# Altium footprint library plobot_final23.PcbLib: 32 footprints (part 1 of 2)
Each footprint in its own frame and in the unit in brackets; x right, y up, seen from the top. Pads: shape width x height; smd on the part's side, far side on the other; paste and mask are expansions set on the pad; w line width, h text height; cw(c..) or ccw(c..) is an arc to the next point about the centre after c.
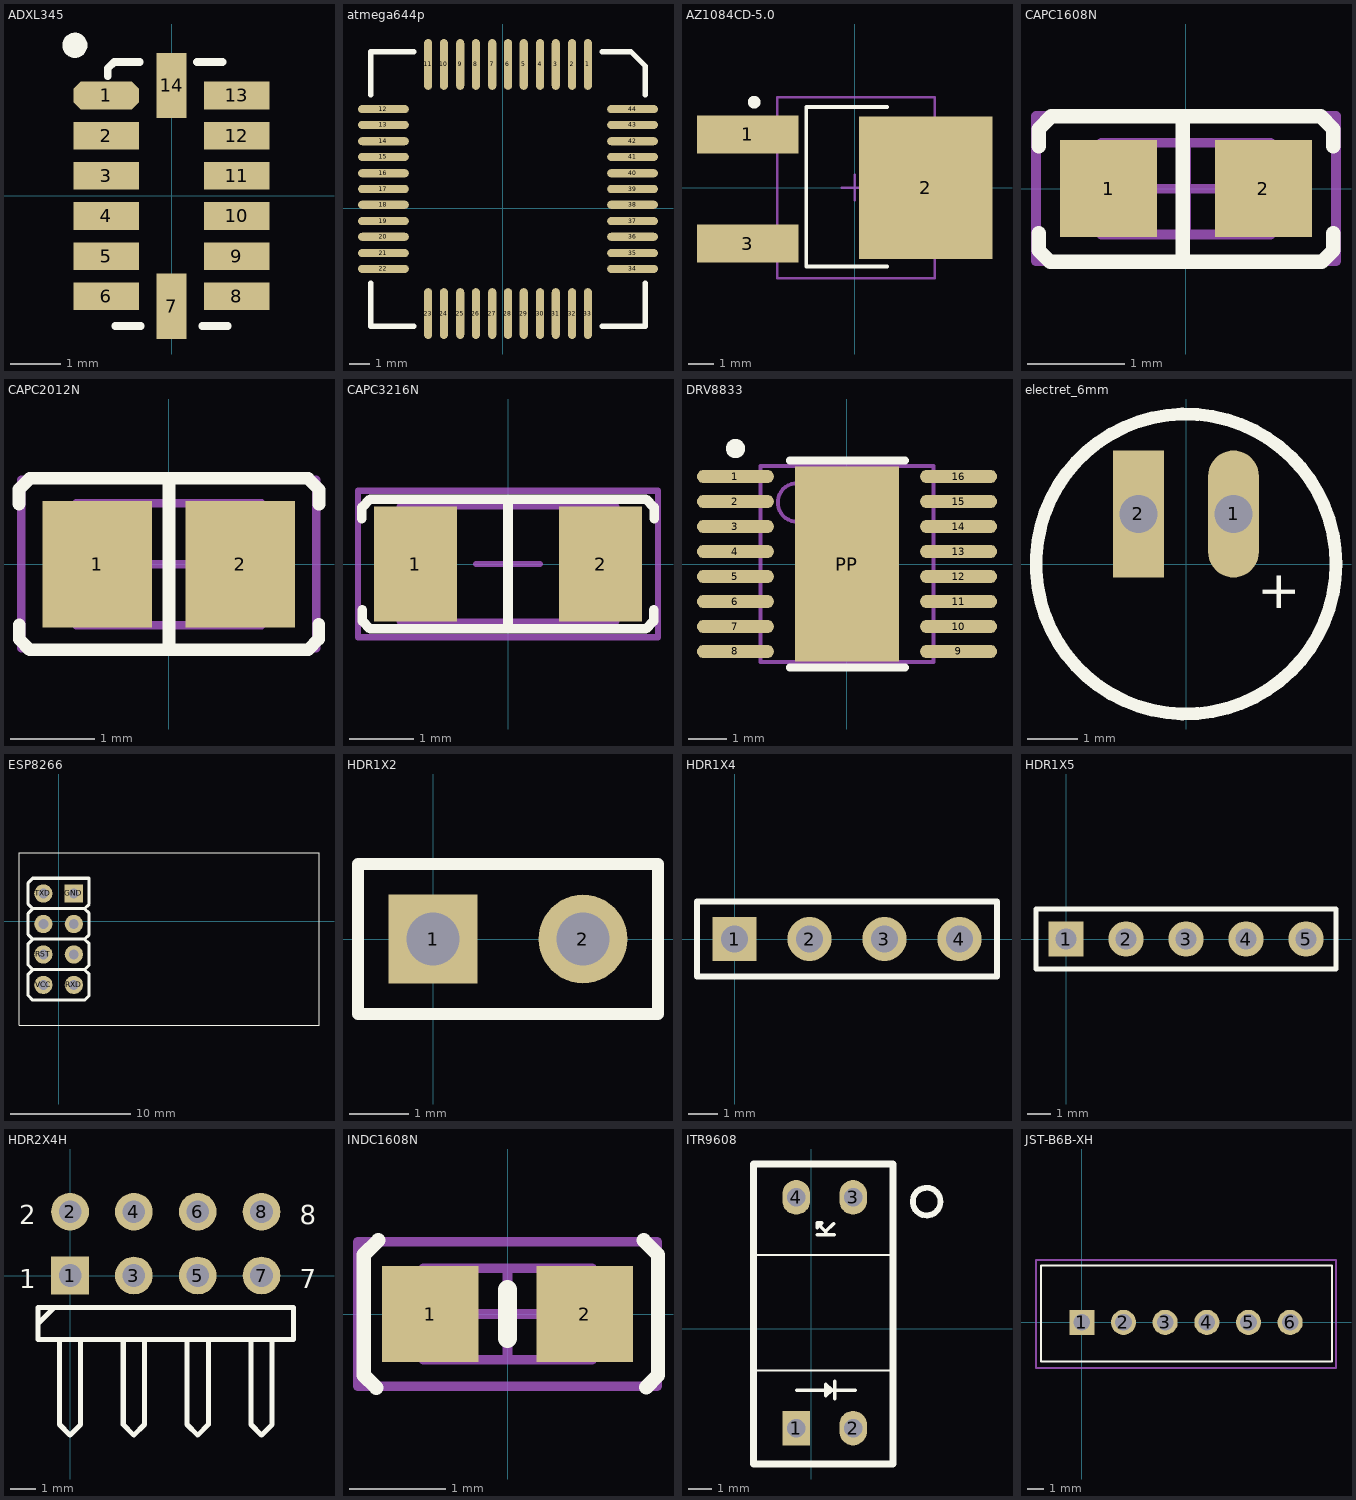
[diagram p0: the footprints below, top view; thin cyan lines are the x and y axes]

## ADXL345 [mm] "BGA, 14-Leads, Body 5.0x3.0mm,  Pitch 0.80mm"
height 1
pads (14):
  oct 1.3x0.55 smd: 1(-1.3,2)
  rect 1.3x0.55 smd: 2(-1.3,1.2) 3(-1.3,0.4) 4(-1.3,-0.4) 5(-1.3,-1.2) 6(-1.3,-2) 8(1.3,-2) 9(1.3,-1.2) 10(1.3,-0.4) 11(1.3,0.4) 12(1.3,1.2) 13(1.3,2)
  rect 0.6x1.3 smd: 7(0,-2.2) 14(0,2.2)
Top Overlay:
  circle w0.25: c-1.925,3 r0.125
  lines w0.152: -1.27,2.388 -1.27,2.54 -1.143,2.667 -0.635,2.667 ; -1.118,-2.591 -0.61,-2.591 ; 0.508,2.667 1.016,2.667 ; 0.61,-2.591 1.118,-2.591
3D body: height 1, standoff 0.21, extent -1.5,-2.5 1.5,2.5

## atmega644p [mil]
height 173.23
pads (44):
  oval 16x100 smd: 1(167.45,282.95) 2(136.45,282.95) 3(104.45,282.95) 4(73.45,282.95) 5(41.45,282.95) 6(10.45,282.95) 7(-20.55,282.95) 8(-52.55,282.95) 9(-83.55,282.95) 10(-115.55,282.95) 11(-146.55,282.95) 23(-146.55,-207.05) 24(-115.55,-207.05) 25(-83.55,-207.05) 26(-52.55,-207.05) 27(-20.55,-207.05) 28(10.45,-207.05) 29(41.45,-207.05) 30(73.45,-207.05) 31(104.45,-207.05) 32(136.45,-207.05) 33(167.45,-207.05)
  oval 100x16 smd: 12(-234.55,194.95) 13(-234.55,163.95) 14(-234.55,131.95) 15(-234.55,100.95) 16(-234.55,68.95) 17(-234.55,37.95) 18(-234.55,6.95) 19(-234.55,-25.05) 20(-234.55,-56.05) 21(-234.55,-88.05) 22(-234.55,-119.05) 34(255.45,-119.05) 35(255.45,-88.05) 36(255.45,-56.05) 37(255.45,-25.05) 38(255.45,6.95) 39(255.45,37.95) 40(255.45,68.95) 41(255.45,100.95) 42(255.45,131.95) 43(255.45,163.95) 44(255.45,194.95)
Top Overlay:
  lines w10: -259.55,-147.05 -259.55,-232.05 -174.55,-232.05 ; -259.55,222.95 -259.55,307.95 -174.55,307.95 ; 195.45,-232.05 280.45,-232.05 280.45,-147.05 ; 195.45,307.95 252.45,307.95 280.45,279.95 280.45,222.95
3D body: height 39.37, standoff 0, extent -182.94,-161.93 226.5,243.58

## AZ1084CD-5.0 [mm] "D-PAK, 3-Pads, Body 6.2x6.7mm (max), IPC Low Density"
height 2.38
pads (3):
  rect 4x1.5 smd: 1(-4.2,2.1) 3(-4.2,-2.2)
  rect 5.25x5.6 smd: 2(2.8,0)
Top Overlay:
  circle w0.25: c-3.95,3.365 r0.125
  lines w0.152: 1.27,-3.099 -1.905,-3.099 -1.905,3.175 1.27,3.175
Mechanical 13:
  lines w0.1: -3.05,-3.556 3.15,-3.556 3.15,3.556 -3.05,3.556 -3.05,-3.556
Mechanical 15:
  lines w0.1: -0.5,0 0.5,0 ; 0,-0.5 0,0.5
3D body: height 2.38, standoff 0.23, extent -3.608,-3.302 2.592,3.302

## CAPC1608N [mm]
pads (2):
  rect 1x1 smd: 1(-0.8,0) 2(0.8,0)
Top Overlay:
  lines w0.15: -1.524,-0.46 -1.524,-0.635 -1.401,-0.758 1.401,-0.758 1.524,-0.635 1.524,-0.46 ; -1.524,0.44 -1.524,0.615 -1.393,0.746 1.393,0.746 1.524,0.615 1.524,0.44 ; -0.035,-0.758 -0.035,0.746
Mechanical 13:
  lines w0.1: -0.875,-0.475 -0.875,0.475 0.875,0.475 0.875,-0.475 -0.875,-0.475
Mechanical 15:
  lines w0.1: -0.475,0 0.475,0 ; 0,-0.475 0,0.475 ; -1.55,-0.75 -1.55,0.75 1.55,0.75 1.55,-0.75 -1.55,-0.75
3D body: height 0.85, standoff 0, extent -0.875,-0.475 0.875,0.475

## CAPC2012N [mm]
pads (2):
  rect 1.3x1.5 smd: 1(-0.85,0) 2(0.85,0)
Top Overlay:
  lines w0.15: -1.778,0.714 -1.778,0.889 -1.647,1.02 1.651,1.02 ; -1.774,-0.718 -1.774,-0.893 -1.651,-1.016 1.655,-1.016 ; 0.002,-1.016 0.002,1.016 ; 1.651,1.016 1.782,0.885 1.782,0.71 ; 1.655,-1.012 1.778,-0.889 1.778,-0.714
Mechanical 13:
  lines w0.1: -1.1,-0.725 1.1,-0.725 1.1,0.725 -1.1,0.725 -1.1,-0.725
Mechanical 15:
  lines w0.1: -0.5,0 0.5,0 ; 0,-0.5 0,0.5 ; -1.75,-1 1.75,-1 1.75,1 -1.75,1 -1.75,-1
3D body: height 1.1, standoff 0, extent -1.1,-0.725 1.1,0.725

## CAPC3216N [mm] "Chip Capacitor, Body 3.2x1.6mm, IPC Medium Density"
height 1.35
pads (2):
  rect 1.3x1.8 smd: 1(-1.45,0) 2(1.45,0)
Top Overlay:
  lines w0.15: -2.29,0.71 -2.29,0.885 -2.159,1.016 2.159,1.016 2.29,0.885 2.29,0.71 ; -2.282,-0.718 -2.282,-0.893 -2.159,-1.016 2.159,-1.016 2.282,-0.893 2.282,-0.718 ; 0,-1.016 0,1.016
Mechanical 13:
  lines w0.1: -1.7,-0.9 1.7,-0.9 1.7,0.9 -1.7,0.9 -1.7,-0.9
Mechanical 15:
  lines w0.1: -0.5,0 0.5,0 ; 0,-0.5 0,0.5 ; -2.35,-1.15 2.35,-1.15 2.35,1.15 -2.35,1.15 -2.35,-1.15
3D body: height 1.35, standoff 0, extent -1.7,-0.9 1.7,0.9

## DRV8833 [mm]
height 4.4
pads (17):
  oval 2x0.35 smd: 1(-2.9,2.275) 2(-2.9,1.625) 3(-2.9,0.975) 4(-2.9,0.325) 5(-2.9,-0.325) 6(-2.9,-0.975) 7(-2.9,-1.625) 8(-2.9,-2.275) 9(2.9,-2.275) 10(2.9,-1.625) 11(2.9,-0.975) 12(2.9,-0.325) 13(2.9,0.325) 14(2.9,0.975) 15(2.9,1.625) 16(2.9,2.275)
  rect 2.7x5.08 smd: PP(0,0)
Top Overlay:
  circle w0.25: c-2.9,3 r0.125
  lines w0.2: -1.492,-2.692 1.508,-2.692 ; -1.492,2.692 1.508,2.692
Mechanical 13:
  circle w0.1: c-1.3,1.6 r0.5
  lines w0.1: -2.25,-2.55 -2.25,2.55 2.25,2.55 2.25,-2.55 -2.25,-2.55
Mechanical 15:
  lines w0.1: -0.5,0 0.5,0 ; 0,-0.5 0,0.5
3D body: height 1.2, standoff 0.25, extent -2.25,-2.55 2.25,2.55

## electret_6mm [mm]
height 4.4
pads (2):
  oval 1.016x2.54 hole 0.762: 1(0.95,1)
  rect 1.016x2.54 hole 0.762: 2(-0.95,1)
Top Overlay:
  circle w0.254: c0,0 r3
  text "+" at 2.184,-0.991 h0.76

## ESP8266 [mil]
pads (8):
  round 60 hole 32: CH_PD(-49.94,-9.12) GPIO0(50.06,-109.12) GPIO2(50.06,-9.12) RST(-49.94,-109.12) RXD(50.06,-209.12) TXD(-49.94,90.88) VCC(-49.94,-209.12)
  rect 60x60 hole 32: GND(50.06,90.88)
Top Overlay:
  lines w3.94: -129.92,-341 -129.92,224 854.33,224 854.33,-341 -129.92,-341
  lines w10: -84.94,-159.12 -99.94,-174.12 -99.94,-244.12 -84.94,-259.12 85.06,-259.12 100.06,-244.12 100.06,-174.12 85.06,-159.12 ; -84.94,-159.12 -99.94,-144.12 -99.94,-74.12 -84.94,-59.12 ; -84.94,-159.12 85.06,-159.12 ; -84.94,-59.12 -99.94,-44.12 -99.94,25.88 -84.94,40.88 ; -84.94,-59.12 85.06,-59.12 ; -84.94,40.88 -99.94,55.88 -99.94,125.88 -84.94,140.88 100.06,140.88 100.06,55.88 85.06,40.88 ; -84.94,40.88 85.06,40.88 ; 85.06,-159.12 100.06,-144.12 100.06,-74.12 85.06,-59.12 ; 85.06,-59.12 100.06,-44.12 100.06,25.88 85.06,40.88
3D body: height 163.78, standoff 157.48, extent -125,-340 845,230
3D body: height 157.48, standoff 0, extent -94.43,-248.09 90.61,129.86

## HDR1X2 [mm] "Connector; Header; 2 Position"
pads (2):
  rect 1.5x1.5 hole 0.9: 1(0,0)
  round 1.5 hole 0.9: 2(2.54,0)
Top Overlay:
  lines w0.2: -1.27,-1.27 -1.27,1.27 3.81,1.27 3.81,-1.27 -1.27,-1.27

## HDR1X4 [mm] "Connector; Header; 4 Position"
pads (4):
  rect 1.5x1.5 hole 0.9: 1(0,0)
  round 1.5 hole 0.9: 2(2.54,0) 3(5.08,0) 4(7.62,0)
Top Overlay:
  lines w0.2: -1.27,-1.27 8.89,-1.27 8.89,1.27 -1.27,1.27 -1.27,-1.27
3D body: height 4, standoff 0, extent -1.27,-1.27 8.89,1.27

## HDR1X5 [mm] "Connector; Header; 5 Position"
pads (5):
  rect 1.5x1.5 hole 0.9: 1(0,0)
  round 1.5 hole 0.9: 2(2.54,0) 3(5.08,0) 4(7.62,0) 5(10.16,0)
Top Overlay:
  lines w0.2: -1.27,-1.27 -1.27,1.27 11.43,1.27 11.43,-1.27 -1.27,-1.27

## HDR2X4H [mm] "Connector; Header; 4x2 Position; Right Angle"
height 4.4
pads (8):
  rect 1.5x1.5 hole 0.9: 1(0,0)
  round 1.5 hole 0.9: 2(0,2.54) 3(2.54,0) 4(2.54,2.54) 5(5.08,0) 6(5.08,2.54) 7(7.62,0) 8(7.62,2.54)
Top Overlay:
  lines w0.2: -1.27,-1.905 -0.635,-1.27 ; -0.423,-2.54 -0.423,-5.927 0,-6.35 0.423,-5.927 0.423,-2.54 ; 2.117,-2.54 2.117,-5.927 2.54,-6.35 2.963,-5.927 2.963,-2.54 ; 4.657,-2.54 4.657,-5.927 5.08,-6.35 5.503,-5.927 5.503,-2.54 ; 7.197,-2.54 7.197,-5.927 7.62,-6.35 8.043,-5.927 8.043,-2.54 ; -1.27,-2.54 8.89,-2.54 8.89,-1.27 -1.27,-1.27 -1.27,-2.54
  text "1" at -2.032,-0.508 h0.76
  text "7" at 9.144,-0.508 h0.76
  text "8" at 9.144,2.032 h0.76
  text "2" at -2.032,2.032 h0.76
3D body: height 2.5, standoff 1.5, extent -0.364,-5.945 0.636,0.055
3D body: height 2.5, standoff 1.5, extent 2.176,-5.945 3.176,0.055
3D body: height 2.5, standoff 1.5, extent 4.716,-5.945 5.716,0.055
3D body: height 2.5, standoff 1.5, extent 7.256,-5.945 8.256,0.055
3D body: height 4.5, standoff 3.5, extent 7.257,-5.945 8.255,3.055
3D body: height 4.5, standoff 3.5, extent 4.717,-5.945 5.715,3.055
3D body: height 4.5, standoff 3.5, extent 2.177,-5.945 3.175,3.055
3D body: height 4.5, standoff 3.5, extent -0.363,-5.945 0.635,3.055
3D body: height 5, standoff 0, extent -0.635,-0.635 8.255,3.81

## INDC1608N [mm]
pads (2):
  rect 1x1 smd: 1(-0.8,0) 2(0.8,0)
Top Overlay:
  lines w0.15: -1.362,-0.762 -1.489,-0.635 -1.489,-0.46 -1.489,0.44 -1.489,0.615 -1.342,0.762 ; 1.412,0.762 1.559,0.615 1.559,0.44 1.559,-0.46 1.559,-0.635 1.436,-0.758
  lines w0.2: 0,-0.254 0,0.254
Mechanical 13:
  lines w0.1: -0.875,-0.475 -0.875,0.475 0.875,0.475 0.875,-0.475 -0.875,-0.475
Mechanical 15:
  lines w0.1: -0.475,0 0.475,0 ; 0,-0.475 0,0.475 ; -1.55,-0.75 -1.55,0.75 1.55,0.75 1.55,-0.75 -1.55,-0.75
3D body: height 0.71, standoff 0, extent -0.875,-0.475 0.875,0.475

## ITR9608 [mm]
height 4.4
pads (4):
  rect 1.2x1.5 hole 0.8: 1(-0.651,-4.316)
  oval 1.2x1.5 hole 0.8: 2(1.816,-4.316) 3(1.816,5.684) 4(-0.651,5.684)
Top Overlay:
  circle w0.254: c5,5.5 r0.6
  lines w0.1: -2.502,-1.817 3.54,-1.817 ; -2.502,3.183 3.54,3.183
  lines w0.152: -0.635,-2.667 1.905,-2.667 ; 0.254,4.064 0.991,4.064 ; 0.254,4.369 0.254,4.572 ; 0.457,4.572 0.254,4.572 ; 0.635,4.064 0.635,4.191 ; 0.965,4.547 0.635,4.216 0.635,4.191 ; 1.016,-3.048 1.016,-2.286 ; 0.254,4.572 0.635,4.191 ; 0.635,-2.921 0.889,-2.667 0.635,-2.413 0.635,-2.921
  lines w0.3: -2.502,7.129 -2.502,-5.871 3.498,-5.871 ; -2.46,7.129 3.54,7.129 3.54,-5.871
3D body: height 2, standoff 0, extent -2.417,-1.817 3.583,3.183
3D body: height 10, standoff 0, extent -2.417,-5.817 3.583,-1.817
3D body: height 10, standoff 0, extent -2.417,3.183 3.583,7.183

## JST-B6B-XH [mm]
height 7
pads (6):
  rect 1.508x1.508 hole 1 mask-25.4: 1(0,0)
  round 1.508 hole 1 mask-25.4: 2(2.5,0) 3(5,0) 4(7.5,0) 5(10,0) 6(12.5,0)
Top Overlay:
  lines w0.127: -2.45,-2.35 -2.45,3.4 15,3.4 15,-2.35 -2.45,-2.35
Top Solder:
  region: 5,0.861 4.777,0.832 4.569,0.746 4.391,0.609 4.254,0.431 4.168,0.223 4.139,0 4.168,-0.223 4.254,-0.431 4.391,-0.609 4.569,-0.746 4.777,-0.832 5,-0.861 5.223,-0.832 5.431,-0.746 5.609,-0.609 5.746,-0.431 5.832,-0.223 5.861,0 5.832,0.223 5.746,0.431 5.609,0.609 5.431,0.746 5.223,0.832
  region: 2.5,0.861 2.277,0.832 2.069,0.746 1.891,0.609 1.754,0.431 1.668,0.223 1.639,0 1.668,-0.223 1.754,-0.431 1.891,-0.609 2.069,-0.746 2.277,-0.832 2.5,-0.861 2.723,-0.832 2.931,-0.746 3.109,-0.609 3.246,-0.431 3.332,-0.223 3.361,0 3.332,0.223 3.246,0.431 3.109,0.609 2.931,0.746 2.723,0.832
  region: -0.854,-0.854 0.854,-0.854 0.854,0.854 -0.854,0.854
  region: 7.5,0.861 7.277,0.832 7.069,0.746 6.891,0.609 6.754,0.431 6.668,0.223 6.639,0 6.668,-0.223 6.754,-0.431 6.891,-0.609 7.069,-0.746 7.277,-0.832 7.5,-0.861 7.723,-0.832 7.931,-0.746 8.109,-0.609 8.246,-0.431 8.332,-0.223 8.361,0 8.332,0.223 8.246,0.431 8.109,0.609 7.931,0.746 7.723,0.832
  region: 10,0.861 9.777,0.832 9.569,0.746 9.391,0.609 9.254,0.431 9.168,0.223 9.139,0 9.168,-0.223 9.254,-0.431 9.391,-0.609 9.569,-0.746 9.777,-0.832 10,-0.861 10.223,-0.832 10.431,-0.746 10.609,-0.609 10.746,-0.431 10.832,-0.223 10.861,0 10.832,0.223 10.746,0.431 10.609,0.609 10.431,0.746 10.223,0.832
  region: 12.5,0.861 12.277,0.832 12.069,0.746 11.891,0.609 11.754,0.431 11.668,0.223 11.639,0 11.668,-0.223 11.754,-0.431 11.891,-0.609 12.069,-0.746 12.277,-0.832 12.5,-0.861 12.723,-0.832 12.931,-0.746 13.109,-0.609 13.246,-0.431 13.332,-0.223 13.361,0 13.332,0.223 13.246,0.431 13.109,0.609 12.931,0.746 12.723,0.832
Bottom Solder:
  region: 7.5,0.861 7.277,0.832 7.069,0.746 6.891,0.609 6.754,0.431 6.668,0.223 6.639,0 6.668,-0.223 6.754,-0.431 6.891,-0.609 7.069,-0.746 7.277,-0.832 7.5,-0.861 7.723,-0.832 7.931,-0.746 8.109,-0.609 8.246,-0.431 8.332,-0.223 8.361,0 8.332,0.223 8.246,0.431 8.109,0.609 7.931,0.746 7.723,0.832
  region: 5,0.861 4.777,0.832 4.569,0.746 4.391,0.609 4.254,0.431 4.168,0.223 4.139,0 4.168,-0.223 4.254,-0.431 4.391,-0.609 4.569,-0.746 4.777,-0.832 5,-0.861 5.223,-0.832 5.431,-0.746 5.609,-0.609 5.746,-0.431 5.832,-0.223 5.861,0 5.832,0.223 5.746,0.431 5.609,0.609 5.431,0.746 5.223,0.832
  region: 2.5,0.861 2.277,0.832 2.069,0.746 1.891,0.609 1.754,0.431 1.668,0.223 1.639,0 1.668,-0.223 1.754,-0.431 1.891,-0.609 2.069,-0.746 2.277,-0.832 2.5,-0.861 2.723,-0.832 2.931,-0.746 3.109,-0.609 3.246,-0.431 3.332,-0.223 3.361,0 3.332,0.223 3.246,0.431 3.109,0.609 2.931,0.746 2.723,0.832
  region: -0.854,-0.854 0.854,-0.854 0.854,0.854 -0.854,0.854
  region: 7.5,0.861 7.277,0.832 7.069,0.746 6.891,0.609 6.754,0.431 6.668,0.223 6.639,0 6.668,-0.223 6.754,-0.431 6.891,-0.609 7.069,-0.746 7.277,-0.832 7.5,-0.861 7.723,-0.832 7.931,-0.746 8.109,-0.609 8.246,-0.431 8.332,-0.223 8.361,0 8.332,0.223 8.246,0.431 8.109,0.609 7.931,0.746 7.723,0.832
  region: 10,0.861 9.777,0.832 9.569,0.746 9.391,0.609 9.254,0.431 9.168,0.223 9.139,0 9.168,-0.223 9.254,-0.431 9.391,-0.609 9.569,-0.746 9.777,-0.832 10,-0.861 10.223,-0.832 10.431,-0.746 10.609,-0.609 10.746,-0.431 10.832,-0.223 10.861,0 10.832,0.223 10.746,0.431 10.609,0.609 10.431,0.746 10.223,0.832
  region: 12.5,0.861 12.277,0.832 12.069,0.746 11.891,0.609 11.754,0.431 11.668,0.223 11.639,0 11.668,-0.223 11.754,-0.431 11.891,-0.609 12.069,-0.746 12.277,-0.832 12.5,-0.861 12.723,-0.832 12.931,-0.746 13.109,-0.609 13.246,-0.431 13.332,-0.223 13.361,0 13.332,0.223 13.246,0.431 13.109,0.609 12.931,0.746 12.723,0.832
Mechanical 1:
  lines w0.127: -2.75,-2.75 -2.75,3.75 15.25,3.75 15.25,-2.75 -2.75,-2.75
3D body: height 4, standoff 0, extent -2.27,-2.25 14.75,3.27